# Altium footprint library SparkFun-Aesthetics.PCBLIB: 126 footprints (part 5 of 8)
Each footprint in its own frame and in the unit in brackets; x right, y up, seen from the top. Pads: shape width x height; smd on the part's side, far side on the other; paste and mask are expansions set on the pad; w line width, h text height; cw(c..) or ccw(c..) is an arc to the next point about the centre after c.
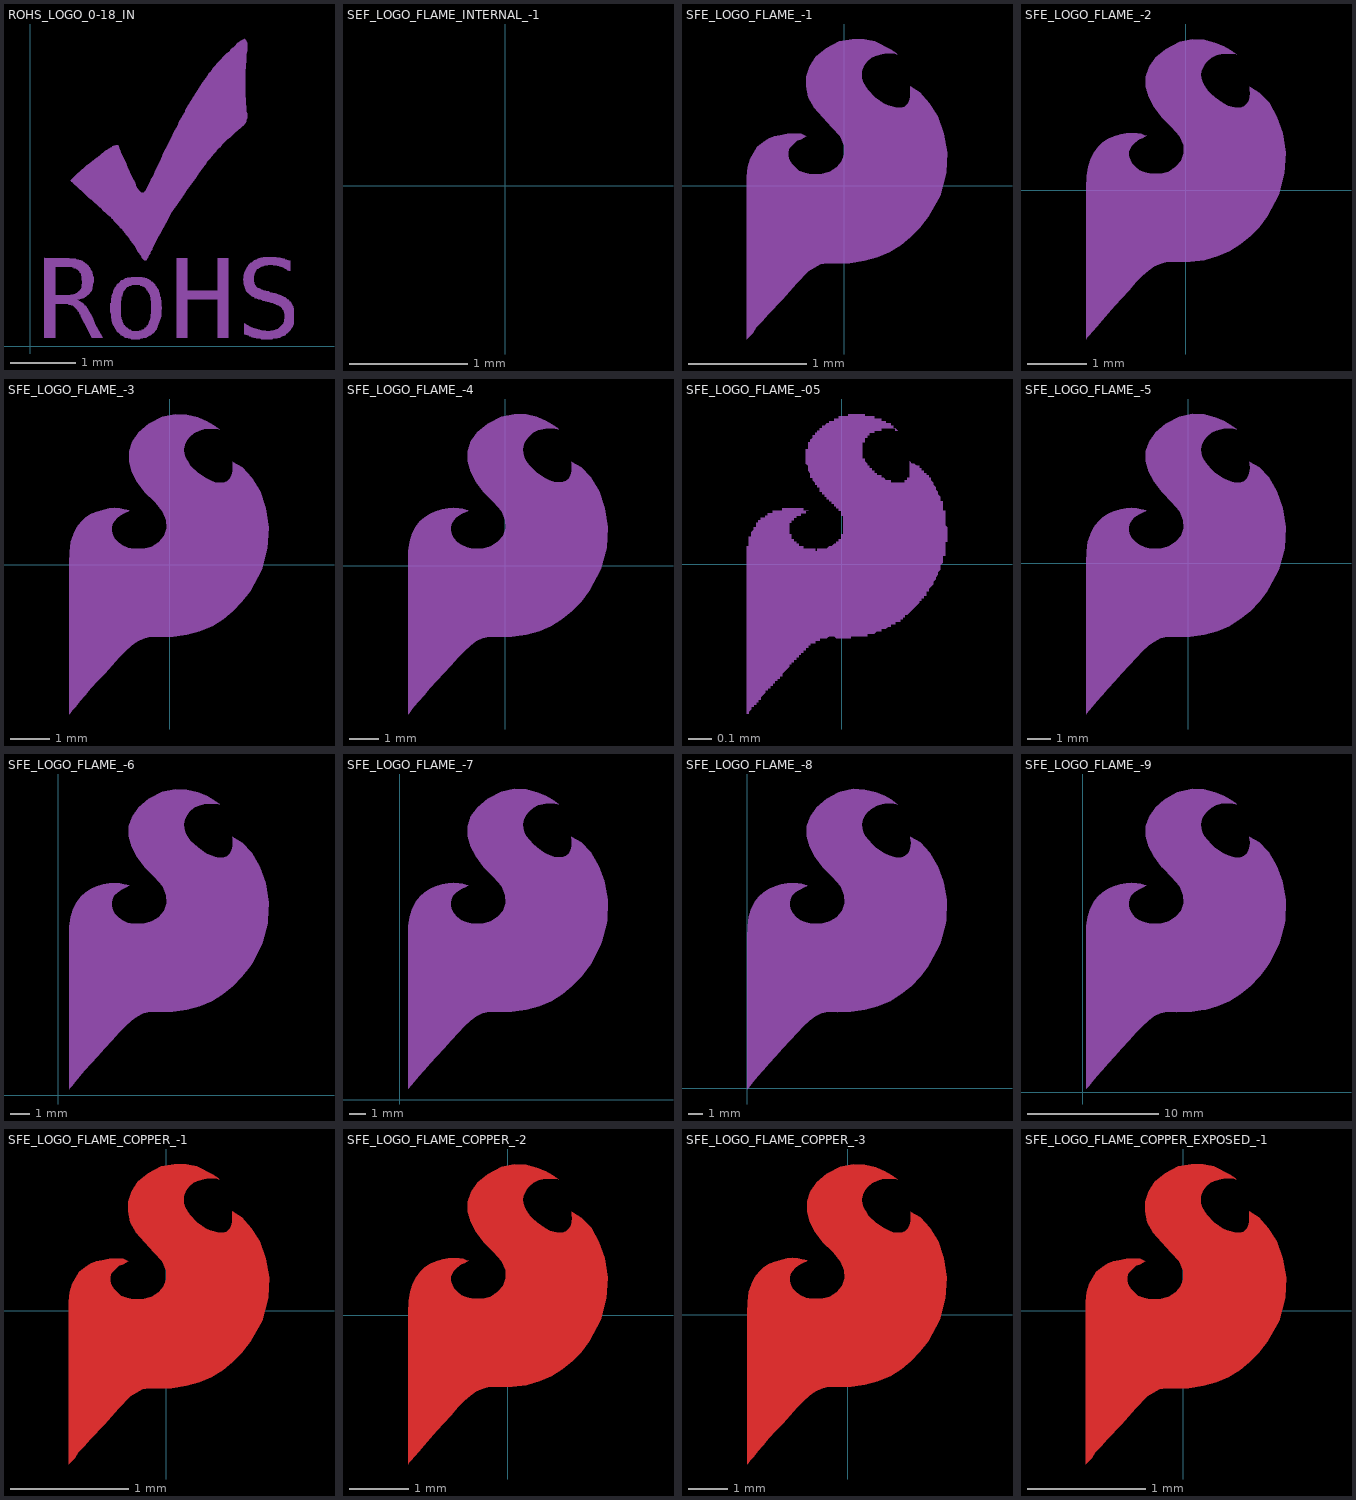
[diagram p4: the footprints below, top view; thin cyan lines are the x and y axes]

## ROHS_LOGO_0-18_IN [mil]
tPlace:
  drawing of 7 lines, arcs and shapes, not listed

## SEF_LOGO_FLAME_INTERNAL_-1 [mil]
Route15:
  region: 21.93,33.03 21.93,29.49 21.54,28.31 21.14,27.52 19.96,26.34 18.78,25.94 17.6,25.94 14.45,26.73 12.87,27.52 11.69,28.31 10.12,29.49 7.76,31.85 6.18,34.21 5.79,35.79 5.79,38.15 6.18,39.33 6.57,40.12 7.36,41.3 8.94,42.48 10.51,43.27 12.48,43.66 14.06,44.06 16.42,44.06 17.2,43.66 17.6,43.66 17.2,44.06 15.63,45.24 10.12,47.99 6.57,48.78 2.64,48.78 -1.69,47.99 -6.02,45.63 -9.57,42.87 -11.54,39.72 -12.72,36.18 -12.72,33.03 -11.93,29.49 -9.96,25.94 -7.2,22.8 -4.06,19.25 -1.3,16.5 -0.12,13.35 -0.12,10.59 -0.91,8.23 -2.48,6.26 -4.84,4.68 -7.99,3.9 -11.14,3.9 -13.11,4.29 -15.08,5.08 -17.44,7.44 -18.23,8.62 -18.62,9.8 -18.62,11.38 -18.23,12.56 -15.87,14.92 -14.69,15.32 -13.11,16.1 -12.72,16.5 -14.29,17.28 -19.02,17.28 -21.38,16.89 -23.35,16.5 -25.32,15.71 -26.89,14.53 -28.86,12.95 -31.22,9.02 -32.01,6.26 -32.4,3.11 -32.4,-50.83 -30.43,-48.86 -29.25,-46.89 -27.28,-44.92 -25.32,-42.56 -20.59,-37.83 -15.87,-32.32 -11.93,-28.39 -7.99,-26.02 -5.63,-25.63 1.85,-25.63 6.57,-24.84 10.91,-23.66 14.84,-22.09 18.78,-19.72 21.93,-16.97 25.08,-13.82 27.83,-10.28 31.77,-3.19 33.74,4.29 34.13,10.98 32.95,17.28 30.98,23.19 28.23,27.52 25.08,31.06

## SFE_LOGO_FLAME_-1 [mil]
tPlace:
  region: 21.93,33.03 21.93,29.49 21.54,28.31 21.14,27.52 19.96,26.34 18.78,25.94 17.6,25.94 14.45,26.73 12.87,27.52 11.69,28.31 10.12,29.49 7.76,31.85 6.18,34.21 5.79,35.79 5.79,38.15 6.18,39.33 6.57,40.12 7.36,41.3 8.94,42.48 10.51,43.27 12.48,43.66 14.06,44.06 16.42,44.06 17.2,43.66 17.6,43.66 17.2,44.06 15.63,45.24 10.12,47.99 6.57,48.78 2.64,48.78 -1.69,47.99 -6.02,45.63 -9.57,42.87 -11.54,39.72 -12.72,36.18 -12.72,33.03 -11.93,29.49 -9.96,25.94 -7.2,22.8 -4.06,19.25 -1.3,16.5 -0.12,13.35 -0.12,10.59 -0.91,8.23 -2.48,6.26 -4.84,4.68 -7.99,3.9 -11.14,3.9 -13.11,4.29 -15.08,5.08 -17.44,7.44 -18.23,8.62 -18.62,9.8 -18.62,11.38 -18.23,12.56 -15.87,14.92 -14.69,15.32 -13.11,16.1 -12.72,16.5 -14.29,17.28 -19.02,17.28 -21.38,16.89 -23.35,16.5 -25.32,15.71 -26.89,14.53 -28.86,12.95 -31.22,9.02 -32.01,6.26 -32.4,3.11 -32.4,-50.83 -30.43,-48.86 -29.25,-46.89 -27.28,-44.92 -25.32,-42.56 -20.59,-37.83 -15.87,-32.32 -11.93,-28.39 -7.99,-26.02 -5.63,-25.63 1.85,-25.63 6.57,-24.84 10.91,-23.66 14.84,-22.09 18.78,-19.72 21.93,-16.97 25.08,-13.82 27.83,-10.28 31.77,-3.19 33.74,4.29 34.13,10.98 32.95,17.28 30.98,23.19 28.23,27.52 25.08,31.06

## SFE_LOGO_FLAME_-2 [mil]
tPlace:
  region: 42.83,69.13 42.83,66.77 43.23,64.8 42.44,60.08 41.26,58.11 39.29,56.14 36.54,54.96 33.78,54.96 28.27,56.54 25.12,58.11 19.61,62.05 16.85,64.41 14.88,66.38 12.91,69.53 11.34,71.89 10.55,74.65 10.16,77.01 10.55,79.37 11.34,81.34 12.52,83.7 14.09,85.67 17.24,88.43 20.39,90 23.54,90.79 27.09,91.18 32.2,91.18 33.78,90.79 34.17,90.79 32.99,91.57 30.24,93.54 25.51,96.3 19.61,98.66 12.52,100.63 4.65,101.02 -4.02,99.06 -13.07,94.33 -19.76,88.82 -24.09,82.52 -26.46,75.83 -26.46,69.13 -24.49,62.44 -20.94,55.35 -15.83,48.66 -9.13,41.97 -4.02,36.06 -1.26,30.16 -1.26,24.65 -2.83,19.53 -6.38,15.59 -11.1,12.44 -16.61,10.87 -22.91,10.87 -27.24,12.05 -30.79,13.23 -33.54,15.59 -35.91,17.95 -37.09,20.32 -37.87,23.07 -37.87,25.83 -37.09,28.19 -35.91,29.76 -34.33,31.34 -32.36,32.91 -30.79,34.09 -28.82,34.88 -26.46,36.06 -26.06,36.46 -26.46,36.46 -27.64,36.85 -29.61,37.64 -32.36,38.03 -39.45,38.03 -43.39,37.24 -47.72,36.06 -51.65,34.49 -55.2,32.13 -58.35,28.98 -61.1,25.43 -63.46,21.1 -65.04,15.59 -65.83,9.29 -66.22,1.81 -66.22,-99.37 -65.83,-98.58 -64.25,-97.01 -61.89,-94.25 -59.13,-90.71 -55.59,-86.77 -51.65,-82.05 -47.32,-77.32 -42.6,-72.2 -37.48,-66.69 -33.15,-61.57 -28.82,-57.24 -24.88,-53.7 -20.94,-50.94 -16.61,-48.98 -12.28,-47.8 3.07,-47.8 12.52,-46.61 21.18,-44.25 29.06,-40.71 36.54,-35.98 43.23,-30.87 49.13,-24.57 54.65,-17.48 62.13,-2.91 66.06,11.26 66.85,25.04 64.88,38.03 60.94,49.06 55.83,58.5 49.13,65.2

## SFE_LOGO_FLAME_-3 [mil]
tPlace:
  region: 63.07,102.48 63.07,101.69 63.46,99.72 63.46,93.43 62.28,89.88 60.71,86.34 57.95,83.58 53.62,82.01 49.69,82.01 45.35,82.8 41.02,84.37 36.69,86.73 28.03,92.24 20.94,99.33 18.19,103.66 15.83,107.6 14.65,111.14 14.25,115.08 14.65,118.23 15.83,121.77 17.8,124.92 20.16,128.07 24.49,131.61 29.61,134.37 34.33,135.55 39.45,136.34 43.39,136.34 46.93,135.94 49.29,135.55 50.08,135.55 48.5,136.73 44.17,139.88 37.09,143.82 28.43,147.76 17.4,150.12 5.59,150.91 -7.4,148.15 -20.79,141.06 -31.02,132.4 -37.32,122.95 -40.47,113.5 -40.47,103.27 -37.72,93.03 -32.2,82.8 -24.72,72.56 -14.49,62.32 -7.01,53.27 -3.07,44.61 -2.68,36.34 -5.43,28.86 -10.55,22.56 -17.64,18.23 -26.3,15.87 -35.75,15.87 -42.05,17.05 -47.17,19.41 -51.5,22.56 -54.65,26.1 -57.01,30.04 -57.8,33.98 -57.8,37.91 -57.01,41.46 -55.04,44.21 -52.68,46.57 -49.92,48.94 -44.41,52.09 -42.05,52.87 -40.87,53.66 -40.08,54.06 -40.87,54.45 -42.83,54.84 -45.59,55.63 -49.92,56.42 -54.65,56.81 -60.16,56.42 -66.06,55.24 -72.76,53.27 -78.27,50.91 -83.78,47.36 -88.5,43.03 -92.83,37.52 -95.98,30.83 -98.74,22.95 -99.92,13.11 -100.32,1.69 -100.32,-149.49 -99.53,-148.7 -97.56,-145.94 -94.02,-142.01 -89.69,-136.89 -84.57,-130.59 -78.66,-123.9 -71.97,-116.42 -64.88,-108.94 -57.4,-100.67 -50.71,-93.19 -44.41,-86.89 -38.5,-81.38 -32.6,-77.05 -26.3,-73.9 -19.21,-72.32 3.62,-72.32 17.4,-70.35 30.39,-66.81 42.6,-61.69 53.62,-54.61 63.46,-46.73 72.52,-37.28 80.79,-26.65 92.2,-5 98.11,16.65 99.29,37.13 96.54,56.42 90.63,73.35 82.36,87.13 72.91,97.36 62.68,102.87

## SFE_LOGO_FLAME_-4 [mil]
tPlace:
  region: 87.91,138.66 88.31,137.87 88.7,135.12 88.7,131.18 88.31,126.46 87.52,121.73 85.16,117.01 81.22,113.46 75.32,111.5 70.2,111.5 64.69,112.28 58.78,114.65 52.87,117.4 46.97,120.94 41.46,125.28 36.34,129.61 32.01,134.33 28.07,139.84 25.32,145.35 23.74,150.47 22.95,155.2 23.74,159.92 25.32,164.25 27.68,168.58 30.83,172.52 36.73,177.64 43.43,181.18 50.12,182.76 56.42,183.54 62.32,183.54 66.65,183.15 69.8,182.76 70.98,182.76 69.02,184.33 63.11,188.66 53.66,193.78 41.85,198.9 27.68,202.44 11.54,202.83 -5.79,199.29 -23.5,189.84 -37.28,178.43 -45.94,166.22 -50.28,153.23 -50.28,139.45 -46.34,126.06 -39.25,112.28 -28.62,98.5 -15.63,85.12 -5,72.91 -0.28,61.1 0.51,50.08 -3.03,40.24 -10.12,32.36 -19.57,26.06 -30.98,22.91 -43.58,22.91 -51.85,24.88 -58.94,28.03 -64.45,31.97 -68.78,36.69 -71.54,42.2 -73.11,47.32 -73.11,52.44 -71.54,57.17 -69.17,61.1 -66.02,64.25 -62.48,67.01 -58.54,69.37 -55,71.34 -52.24,72.52 -50.28,73.31 -49.49,74.09 -50.28,74.49 -53.03,75.28 -56.97,76.06 -62.09,76.85 -68.78,77.64 -76.26,76.85 -84.13,75.67 -92.8,73.31 -100.28,69.76 -107.36,65.04 -114.06,59.53 -119.57,52.05 -124.29,43.39 -127.44,32.36 -129.41,19.37 -129.8,4.41 -129.8,-197.56 -128.62,-196.38 -125.87,-192.83 -121.54,-187.32 -115.63,-180.63 -108.54,-172.36 -100.67,-163.31 -91.61,-153.46 -82.56,-143.23 -72.32,-132.2 -63.27,-122.36 -55,-113.7 -47.13,-106.22 -39.25,-100.71 -30.98,-96.38 -21.54,-94.41 8.78,-94.41 27.68,-92.05 45,-86.93 60.75,-80.24 75.32,-71.18 88.7,-60.16 100.91,-47.56 111.93,-33.39 127.28,-4.65 135.16,24.09 136.73,51.65 132.8,77.24 124.92,99.69 113.9,118.19 101.3,131.57 87.91,139.06

## SFE_LOGO_FLAME_-05 [mil]
tPlace:
  drawing of 1 lines, arcs and shapes, not listed

## SFE_LOGO_FLAME_-5 [mil]
tPlace:
  region: 101.73,169.02 102.13,167.83 102.52,164.29 102.91,159.57 102.52,153.66 100.94,147.76 98.19,142.24 93.07,137.52 85.98,134.76 79.69,134.76 72.6,136.34 65.51,138.7 58.03,142.24 50.55,146.97 43.46,152.09 37.56,157.6 32.05,163.5 26.93,170.59 23.39,177.28 21.42,183.58 20.63,189.88 21.42,195.39 23.39,200.91 26.14,206.42 30.47,211.54 37.95,217.83 45.83,221.77 54.49,224.13 62.36,225.32 69.45,225.32 75.35,224.53 78.9,224.13 80.47,224.13 77.72,226.1 70.24,231.22 58.82,237.91 43.86,244.21 26.14,248.54 6.06,249.33 -15.2,244.61 -37.64,233.19 -54.57,218.62 -65.59,203.27 -70.71,187.13 -71.1,170.2 -66.38,152.87 -56.93,135.94 -43.94,118.62 -27.4,102.09 -14.8,87.13 -8.5,72.17 -7.72,58.39 -12.05,46.18 -20.71,35.94 -32.52,28.46 -46.69,24.53 -62.83,24.53 -73.07,26.89 -81.73,30.83 -88.82,35.94 -94.33,41.85 -97.87,48.15 -99.84,54.84 -99.84,61.54 -97.87,67.44 -94.72,71.77 -90.79,76.1 -86.46,79.25 -81.73,82.4 -77.01,84.76 -73.46,86.34 -71.1,87.52 -69.92,87.91 -71.1,88.7 -74.25,89.49 -79.37,90.67 -86.06,91.85 -94.33,92.64 -103.39,91.85 -113.23,90.28 -124.25,87.13 -133.7,82.8 -142.76,77.28 -150.63,69.8 -157.72,60.75 -163.23,49.72 -167.56,36.34 -169.92,20.2 -170.32,1.3 -170.32,-251.06 -169.13,-249.49 -165.59,-245.16 -160.08,-238.86 -152.6,-230.2 -143.94,-219.96 -134.09,-208.54 -123.07,-196.34 -111.26,-183.35 -98.66,-169.57 -87.24,-157.36 -77.01,-146.34 -67.17,-137.28 -57.32,-130.2 -46.69,-125.08 -35.28,-122.32 2.91,-122.32 26.14,-119.17 47.8,-113.27 67.87,-104.61 85.98,-93.19 102.91,-79.41 117.87,-64.06 131.65,-46.34 134.41,-41.61 150.94,-10.12 160.79,25.71 162.36,60.35 157.64,92.24 147.8,120.2 134.02,143.43 118.27,160.35 101.73,169.8

## SFE_LOGO_FLAME_-6 [mil]
tPlace:
  region: 348.43,516.54 348.82,514.96 349.21,511.02 349.61,505.12 349.21,498.03 347.24,490.94 344.09,484.25 338.19,478.74 329.53,475.59 322.05,475.59 313.39,477.17 304.72,480.32 295.67,484.65 287.01,490.16 278.74,496.46 271.26,503.15 264.57,509.84 258.66,518.5 254.33,526.38 251.97,534.25 251.18,541.34 251.97,548.43 254.33,554.72 257.87,561.42 262.6,567.32 271.65,575.2 281.5,579.92 291.34,582.68 301.18,583.86 309.45,583.86 316.54,583.46 321.26,582.68 322.83,582.68 319.69,585.04 310.63,591.34 296.85,599.21 279.13,606.69 257.48,611.81 233.86,612.99 207.87,607.48 181.1,593.7 160.63,576.38 147.64,557.87 141.34,538.19 141.34,518.11 146.85,497.24 157.87,476.77 173.23,456.3 193.31,436.22 208.66,418.11 216.14,400.39 216.93,383.86 211.81,368.9 201.57,356.69 187.4,348.03 170.08,342.91 151.18,342.91 138.58,345.67 127.95,350.39 119.69,356.69 112.99,363.78 108.66,371.65 106.69,379.53 106.69,387.4 108.66,394.49 112.2,400 117.32,404.72 122.83,409.06 128.35,412.6 133.86,415.35 138.19,417.32 141.34,418.9 142.13,419.29 140.94,420.08 137.01,421.26 131.1,422.83 122.83,424.02 113.39,424.8 102.36,424.02 90.16,422.05 77.17,418.5 65.75,413.39 55.12,406.3 45.28,397.64 37.01,386.61 30.32,373.23 25.2,357.09 22.44,337.8 22.05,314.96 22.05,277.17 22.05,239.37 22.05,201.57 22.05,163.78 22.05,125.98 22.05,88.19 22.05,50.39 22.05,12.6 23.23,14.17 27.56,19.29 34.25,27.17 42.91,37.8 53.54,50 65.75,63.78 78.74,78.35 92.91,93.7 107.87,110.24 121.26,125.2 133.86,138.19 145.67,148.82 157.48,157.48 170.08,163.78 183.86,166.93 199.21,166.93 229.53,166.93 257.48,170.87 283.46,177.95 307.48,188.58 329.53,201.97 349.61,218.11 367.72,237.01 383.86,258.27 387.8,263.78 407.09,301.57 409.45,307.09 418.9,344.49 419.69,350 421.26,385.83 415.35,424.41 403.54,457.87 387.01,485.83 368.11,505.91 348.03,517.32

## SFE_LOGO_FLAME_-7 [mil]
tPlace:
  region: 400.79,613.39 400.79,611.81 401.57,606.69 401.97,600 401.57,591.73 399.61,583.46 395.28,575.59 388.58,569.29 378.74,565.75 369.69,565.75 359.84,567.32 349.61,570.87 339.37,575.98 328.74,582.68 319.29,589.76 310.63,597.64 302.76,605.91 295.67,615.75 290.94,624.8 287.8,633.86 287.01,642.13 287.8,650.39 290.55,657.87 294.88,665.35 300.79,672.44 311.02,681.5 322.44,687.4 334.25,690.55 345.28,692.13 355.51,692.13 363.39,691.34 368.9,690.16 370.87,690.16 366.93,693.31 356.69,700.39 340.55,709.84 319.69,718.5 294.88,724.8 266.93,725.59 236.61,719.29 205.51,703.15 181.5,683.07 166.14,661.42 159.06,638.58 158.66,614.96 165.35,590.94 178.35,566.93 196.46,542.91 219.69,519.29 237.4,498.43 246.46,477.95 247.24,458.66 240.94,441.34 229.13,427.17 212.6,416.54 192.52,411.02 170.47,411.02 155.91,414.17 143.31,419.69 133.46,426.77 125.98,435.04 121.26,444.09 118.5,453.54 118.5,462.6 120.87,470.87 125.2,477.17 130.71,483.07 137.4,487.8 144.09,492.13 150,495.28 155.12,497.64 158.66,499.21 160.24,500 158.66,500.79 153.94,502.36 146.85,503.94 137.4,505.51 126.38,506.3 113.39,505.51 99.21,503.15 84.25,498.82 70.87,492.91 58.27,484.65 47.24,474.8 37.4,461.81 29.53,446.06 23.62,427.17 20.08,404.72 19.69,378.35 19.69,334.25 19.69,290.16 19.69,246.06 19.69,201.97 19.69,157.48 19.69,113.39 19.69,69.29 19.69,25.2 21.26,27.17 26.38,33.46 34.25,42.52 44.49,54.72 56.69,68.9 70.47,85.04 85.83,101.97 102.36,119.69 120.08,138.98 135.83,156.69 150.39,171.65 164.17,184.65 177.95,194.49 192.52,201.57 208.66,205.51 226.77,205.51 261.81,205.51 294.88,209.84 325.2,218.11 353.15,230.32 378.74,246.06 401.97,265.35 423.23,287.4 442.13,311.81 446.46,318.11 469.29,362.6 471.65,368.9 483.07,412.6 483.86,418.9 485.43,461.02 485.04,466.93 478.74,505.51 477.56,511.02 464.96,544.88 445.67,577.56 423.62,601.18 400.39,614.17

## SFE_LOGO_FLAME_-8 [mil]
tPlace:
  region: 435.43,670.08 435.43,667.72 436.61,662.2 437.01,654.33 436.22,645.28 433.86,635.43 429.53,626.77 421.65,619.68 410.24,615.35 400,615.35 388.98,617.32 377.17,621.26 364.96,627.17 353.54,634.65 342.13,642.91 332.28,651.97 323.62,661.02 315.35,672.44 309.84,683.07 306.69,693.31 305.51,702.76 306.69,712.2 309.84,720.87 314.57,729.53 321.26,737.4 333.07,747.64 346.06,754.33 359.45,758.27 372.05,759.84 383.46,759.84 392.91,758.66 398.82,757.87 401.18,757.87 396.85,761.02 385.04,769.29 366.93,779.92 342.91,790.16 314.17,796.85 282.28,798.43 248.03,790.94 243.7,789.37 212.2,772.44 185.04,749.21 167.72,724.8 159.06,698.43 159.06,671.65 166.54,644.09 181.1,616.54 201.97,589.37 228.35,562.6 248.82,538.58 259.06,514.96 259.84,492.91 253.15,473.23 239.37,456.69 220.47,444.88 197.64,438.58 172.05,438.58 155.51,442.13 141.34,448.43 130.32,456.69 121.65,466.14 115.75,476.38 112.99,487.01 112.99,497.64 115.75,507.09 120.47,514.17 127.17,520.87 134.25,526.38 142.13,531.1 149.21,535.04 154.72,537.8 159.06,539.37 160.63,540.16 158.66,540.94 153.54,542.91 145.28,544.88 134.65,546.46 122.05,547.24 107.09,546.46 90.94,543.7 74.02,538.98 58.66,531.89 44.09,522.83 31.1,511.42 20.08,496.85 11.02,478.74 4.33,457.09 0.79,431.5 0,401.18 0,350.79 0,300.39 0,250 0,199.61 0,148.82 0,98.43 0,48.03 0,-2.36 1.97,0 7.48,6.69 16.54,17.32 27.95,31.1 42.13,47.64 58.27,65.75 75.59,85.43 94.49,105.91 114.57,127.95 132.68,147.64 149.21,164.96 164.96,179.53 181.1,191.34 197.64,199.21 216.14,203.54 236.61,203.54 241.73,203.15 276.77,203.54 314.17,208.66 348.82,218.11 381.1,232.28 410.24,250.39 437.01,272.05 461.02,297.24 482.68,325.2 487.4,332.68 513.78,383.07 516.54,390.16 529.53,440.55 530.71,447.64 532.28,495.67 531.89,502.36 524.8,546.85 523.23,552.76 508.66,591.73 506.3,596.85 487.01,628.74 461.81,655.91 435.04,670.87

## SFE_LOGO_FLAME_-9 [mil]
tPlace:
  region: 500.79,765.75 501.18,763.39 502.36,757.09 502.76,748.03 501.97,737.8 499.21,726.77 494.09,716.93 485.43,709.06 472.44,703.94 461.02,703.94 448.82,706.3 435.43,711.02 422.05,717.72 408.66,725.98 396.06,735.04 385.04,745.28 375.2,755.51 366.14,768.5 359.84,780.32 355.91,791.73 354.72,802.76 355.91,812.99 359.45,822.83 364.96,832.68 372.44,841.73 385.83,853.15 400.39,860.63 415.35,864.96 429.92,866.54 442.52,866.54 453.15,865.75 459.84,864.57 462.6,864.57 457.87,868.11 444.49,877.56 423.62,889.37 396.85,900.79 364.57,908.66 328.74,909.84 324.02,909.45 290.16,901.97 285.04,900 249.61,881.1 245.28,877.95 219.29,855.12 199.61,827.17 190.16,798.03 190.16,767.72 198.43,736.61 214.96,705.91 238.19,674.8 241.73,671.26 268.11,644.88 291.34,617.72 302.36,591.34 303.54,566.54 295.67,544.09 280.32,525.98 259.45,512.6 233.46,505.12 204.72,505.12 186.22,509.45 170.47,516.54 157.48,525.59 148.03,536.22 141.73,548.03 138.19,559.84 138.19,571.65 141.34,582.28 146.85,590.55 153.94,598.03 162.2,604.33 170.87,609.45 178.74,613.78 185.43,616.93 190.16,618.9 191.73,619.68 189.76,620.87 183.86,622.44 174.8,624.8 162.6,626.77 148.43,627.95 131.89,626.77 113.39,624.02 94.09,618.11 77.17,610.63 61.02,600.39 46.46,587.01 33.86,570.87 23.62,550.79 16.14,526.38 11.81,497.24 11.02,463.39 11.02,406.69 11.02,350 11.02,292.91 11.02,236.22 11.02,179.53 11.02,122.83 11.02,66.14 11.02,9.45 13.39,11.81 19.69,19.69 29.53,31.5 42.91,47.24 58.66,65.35 76.77,86.22 96.46,108.27 117.32,131.1 140.16,155.91 160.24,178.35 179.13,197.64 196.85,214.17 214.57,227.17 233.46,236.22 254.33,240.94 277.56,240.94 283.07,240.55 322.83,240.94 327.95,241.73 364.57,246.85 369.69,247.64 403.94,257.48 439.76,273.23 472.83,293.7 502.76,318.11 529.92,346.06 533.07,350 554.33,377.95 559.84,386.22 588.98,442.91 592.13,451.18 606.69,507.48 607.87,515.35 610.24,569.68 609.45,577.17 601.57,627.17 599.61,633.86 583.46,677.56 580.71,683.46 559.06,719.29 555.51,723.62 530.71,749.61 500.79,766.54

## SFE_LOGO_FLAME_COPPER_-1 [mil]
Top:
  region: 21.93,33.03 21.93,29.49 21.54,28.31 21.14,27.52 19.96,26.34 18.78,25.94 17.6,25.94 14.45,26.73 12.87,27.52 11.69,28.31 10.12,29.49 7.76,31.85 6.18,34.21 5.79,35.79 5.79,38.15 6.18,39.33 6.57,40.12 7.36,41.3 8.94,42.48 10.51,43.27 12.48,43.66 14.06,44.06 16.42,44.06 17.2,43.66 17.6,43.66 17.2,44.06 15.63,45.24 10.12,47.99 6.57,48.78 2.64,48.78 -1.69,47.99 -6.02,45.63 -9.57,42.87 -11.54,39.72 -12.72,36.18 -12.72,33.03 -11.93,29.49 -9.96,25.94 -7.2,22.8 -4.06,19.25 -1.3,16.5 -0.12,13.35 -0.12,10.59 -0.91,8.23 -2.48,6.26 -4.84,4.68 -7.99,3.9 -11.14,3.9 -13.11,4.29 -15.08,5.08 -17.44,7.44 -18.23,8.62 -18.62,9.8 -18.62,11.38 -18.23,12.56 -15.87,14.92 -14.69,15.32 -13.11,16.1 -12.72,16.5 -14.29,17.28 -19.02,17.28 -21.38,16.89 -23.35,16.5 -25.32,15.71 -26.89,14.53 -28.86,12.95 -31.22,9.02 -32.01,6.26 -32.4,3.11 -32.4,-50.83 -30.43,-48.86 -29.25,-46.89 -27.28,-44.92 -25.32,-42.56 -20.59,-37.83 -15.87,-32.32 -11.93,-28.39 -7.99,-26.02 -5.63,-25.63 1.85,-25.63 6.57,-24.84 10.91,-23.66 14.84,-22.09 18.78,-19.72 21.93,-16.97 25.08,-13.82 27.83,-10.28 31.77,-3.19 33.74,4.29 34.13,10.98 32.95,17.28 30.98,23.19 28.23,27.52 25.08,31.06

## SFE_LOGO_FLAME_COPPER_-2 [mil]
Top:
  region: 42.83,69.13 42.83,66.77 43.23,64.8 42.44,60.08 41.26,58.11 39.29,56.14 36.54,54.96 33.78,54.96 28.27,56.54 25.12,58.11 19.61,62.05 16.85,64.41 14.88,66.38 12.91,69.53 11.34,71.89 10.55,74.65 10.16,77.01 10.55,79.37 11.34,81.34 12.52,83.7 14.09,85.67 17.24,88.43 20.39,90 23.54,90.79 27.09,91.18 32.2,91.18 33.78,90.79 34.17,90.79 32.99,91.57 30.24,93.54 25.51,96.3 19.61,98.66 12.52,100.63 4.65,101.02 -4.02,99.06 -13.07,94.33 -19.76,88.82 -24.09,82.52 -26.46,75.83 -26.46,69.13 -24.49,62.44 -20.94,55.35 -15.83,48.66 -9.13,41.97 -4.02,36.06 -1.26,30.16 -1.26,24.65 -2.83,19.53 -6.38,15.59 -11.1,12.44 -16.61,10.87 -22.91,10.87 -27.24,12.05 -30.79,13.23 -33.54,15.59 -35.91,17.95 -37.09,20.32 -37.87,23.07 -37.87,25.83 -37.09,28.19 -35.91,29.76 -34.33,31.34 -32.36,32.91 -30.79,34.09 -28.82,34.88 -26.46,36.06 -26.06,36.46 -26.46,36.46 -27.64,36.85 -29.61,37.64 -32.36,38.03 -39.45,38.03 -43.39,37.24 -47.72,36.06 -51.65,34.49 -55.2,32.13 -58.35,28.98 -61.1,25.43 -63.46,21.1 -65.04,15.59 -65.83,9.29 -66.22,1.81 -66.22,-99.37 -65.83,-98.58 -64.25,-97.01 -61.89,-94.25 -59.13,-90.71 -55.59,-86.77 -51.65,-82.05 -47.32,-77.32 -42.6,-72.2 -37.48,-66.69 -33.15,-61.57 -28.82,-57.24 -24.88,-53.7 -20.94,-50.94 -16.61,-48.98 -12.28,-47.8 3.07,-47.8 12.52,-46.61 21.18,-44.25 29.06,-40.71 36.54,-35.98 43.23,-30.87 49.13,-24.57 54.65,-17.48 62.13,-2.91 66.06,11.26 66.85,25.04 64.88,38.03 60.94,49.06 55.83,58.5 49.13,65.2

## SFE_LOGO_FLAME_COPPER_-3 [mil]
Top:
  region: 63.07,102.48 63.07,101.69 63.46,99.72 63.46,93.43 62.28,89.88 60.71,86.34 57.95,83.58 53.62,82.01 49.69,82.01 45.35,82.8 41.02,84.37 36.69,86.73 28.03,92.24 20.94,99.33 18.19,103.66 15.83,107.6 14.65,111.14 14.25,115.08 14.65,118.23 15.83,121.77 17.8,124.92 20.16,128.07 24.49,131.61 29.61,134.37 34.33,135.55 39.45,136.34 43.39,136.34 46.93,135.94 49.29,135.55 50.08,135.55 48.5,136.73 44.17,139.88 37.09,143.82 28.43,147.76 17.4,150.12 5.59,150.91 -7.4,148.15 -20.79,141.06 -31.02,132.4 -37.32,122.95 -40.47,113.5 -40.47,103.27 -37.72,93.03 -32.2,82.8 -24.72,72.56 -14.49,62.32 -7.01,53.27 -3.07,44.61 -2.68,36.34 -5.43,28.86 -10.55,22.56 -17.64,18.23 -26.3,15.87 -35.75,15.87 -42.05,17.05 -47.17,19.41 -51.5,22.56 -54.65,26.1 -57.01,30.04 -57.8,33.98 -57.8,37.91 -57.01,41.46 -55.04,44.21 -52.68,46.57 -49.92,48.94 -44.41,52.09 -42.05,52.87 -40.87,53.66 -40.08,54.06 -40.87,54.45 -42.83,54.84 -45.59,55.63 -49.92,56.42 -54.65,56.81 -60.16,56.42 -66.06,55.24 -72.76,53.27 -78.27,50.91 -83.78,47.36 -88.5,43.03 -92.83,37.52 -95.98,30.83 -98.74,22.95 -99.92,13.11 -100.32,1.69 -100.32,-149.49 -99.53,-148.7 -97.56,-145.94 -94.02,-142.01 -89.69,-136.89 -84.57,-130.59 -78.66,-123.9 -71.97,-116.42 -64.88,-108.94 -57.4,-100.67 -50.71,-93.19 -44.41,-86.89 -38.5,-81.38 -32.6,-77.05 -26.3,-73.9 -19.21,-72.32 3.62,-72.32 17.4,-70.35 30.39,-66.81 42.6,-61.69 53.62,-54.61 63.46,-46.73 72.52,-37.28 80.79,-26.65 92.2,-5 98.11,16.65 99.29,37.13 96.54,56.42 90.63,73.35 82.36,87.13 72.91,97.36 62.68,102.87

## SFE_LOGO_FLAME_COPPER_EXPOSED_-1 [mil]
Top:
  region: 21.93,33.03 21.93,29.49 21.54,28.31 21.14,27.52 19.96,26.34 18.78,25.94 17.6,25.94 14.45,26.73 12.87,27.52 11.69,28.31 10.12,29.49 7.76,31.85 6.18,34.21 5.79,35.79 5.79,38.15 6.18,39.33 6.57,40.12 7.36,41.3 8.94,42.48 10.51,43.27 12.48,43.66 14.06,44.06 16.42,44.06 17.2,43.66 17.6,43.66 17.2,44.06 15.63,45.24 10.12,47.99 6.57,48.78 2.64,48.78 -1.69,47.99 -6.02,45.63 -9.57,42.87 -11.54,39.72 -12.72,36.18 -12.72,33.03 -11.93,29.49 -9.96,25.94 -7.2,22.8 -4.06,19.25 -1.3,16.5 -0.12,13.35 -0.12,10.59 -0.91,8.23 -2.48,6.26 -4.84,4.68 -7.99,3.9 -11.14,3.9 -13.11,4.29 -15.08,5.08 -17.44,7.44 -18.23,8.62 -18.62,9.8 -18.62,11.38 -18.23,12.56 -15.87,14.92 -14.69,15.32 -13.11,16.1 -12.72,16.5 -14.29,17.28 -19.02,17.28 -21.38,16.89 -23.35,16.5 -25.32,15.71 -26.89,14.53 -28.86,12.95 -31.22,9.02 -32.01,6.26 -32.4,3.11 -32.4,-50.83 -30.43,-48.86 -29.25,-46.89 -27.28,-44.92 -25.32,-42.56 -20.59,-37.83 -15.87,-32.32 -11.93,-28.39 -7.99,-26.02 -5.63,-25.63 1.85,-25.63 6.57,-24.84 10.91,-23.66 14.84,-22.09 18.78,-19.72 21.93,-16.97 25.08,-13.82 27.83,-10.28 31.77,-3.19 33.74,4.29 34.13,10.98 32.95,17.28 30.98,23.19 28.23,27.52 25.08,31.06
Top Solder:
  region: 21.93,33.03 21.93,29.49 21.54,28.31 21.14,27.52 19.96,26.34 18.78,25.94 17.6,25.94 14.45,26.73 12.87,27.52 11.69,28.31 10.12,29.49 7.76,31.85 6.18,34.21 5.79,35.79 5.79,38.15 6.18,39.33 6.57,40.12 7.36,41.3 8.94,42.48 10.51,43.27 12.48,43.66 14.06,44.06 16.42,44.06 17.2,43.66 17.6,43.66 17.2,44.06 15.63,45.24 10.12,47.99 6.57,48.78 2.64,48.78 -1.69,47.99 -6.02,45.63 -9.57,42.87 -11.54,39.72 -12.72,36.18 -12.72,33.03 -11.93,29.49 -9.96,25.94 -7.2,22.8 -4.06,19.25 -1.3,16.5 -0.12,13.35 -0.12,10.59 -0.91,8.23 -2.48,6.26 -4.84,4.68 -7.99,3.9 -11.14,3.9 -13.11,4.29 -15.08,5.08 -17.44,7.44 -18.23,8.62 -18.62,9.8 -18.62,11.38 -18.23,12.56 -15.87,14.92 -14.69,15.32 -13.11,16.1 -12.72,16.5 -14.29,17.28 -19.02,17.28 -21.38,16.89 -23.35,16.5 -25.32,15.71 -26.89,14.53 -28.86,12.95 -31.22,9.02 -32.01,6.26 -32.4,3.11 -32.4,-50.83 -30.43,-48.86 -29.25,-46.89 -27.28,-44.92 -25.32,-42.56 -20.59,-37.83 -15.87,-32.32 -11.93,-28.39 -7.99,-26.02 -5.63,-25.63 1.85,-25.63 6.57,-24.84 10.91,-23.66 14.84,-22.09 18.78,-19.72 21.93,-16.97 25.08,-13.82 27.83,-10.28 31.77,-3.19 33.74,4.29 34.13,10.98 32.95,17.28 30.98,23.19 28.23,27.52 25.08,31.06